# Altium schematic symbol library Trinamics Drivers.SchLib: 5 symbols
Pins are listed as number, name and electrical type; pins without a type are passive.

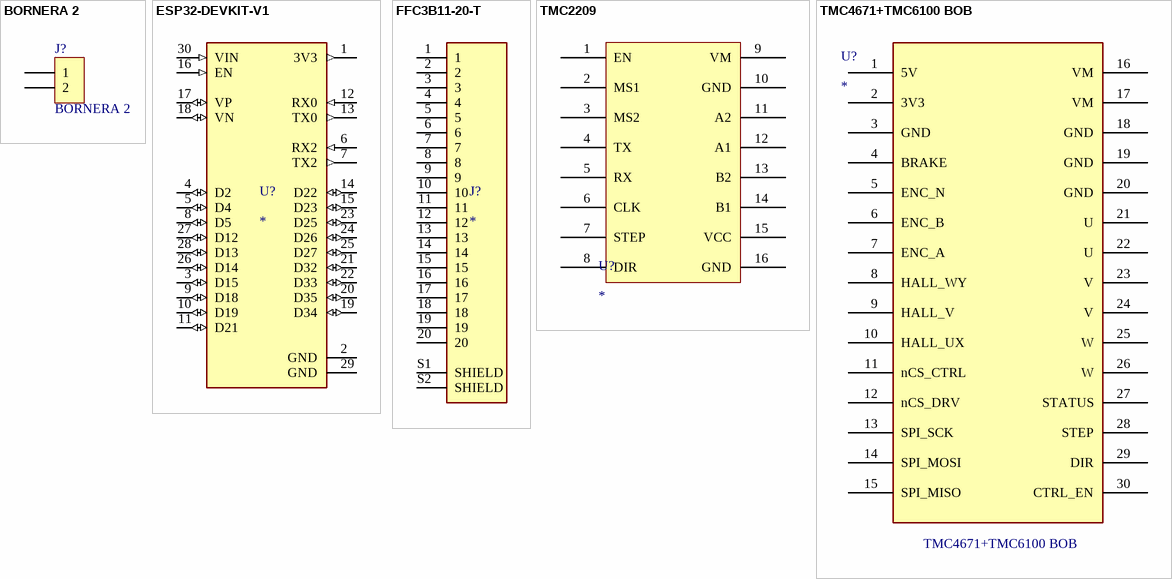
[diagram p0: symbols BORNERA 2 to TMC4671+TMC6100 BOB]

## BORNERA 2
designator J?
footprint BORNERA2 (Bornera con Tornillos 5mm separación)
pins: 1, 2

## ESP32-DEVKIT-V1
designator U?
Dual core, Wi-Fi: 2.4 GHz up to 150 Mbits/s,BLE (Bluetooth Low Energy) and legacy Bluetooth, 32 bits, Up to 240 MHz; MF: Do it; MP: ESP32-DEVKIT-V1; SnapEDA_Link: https://www.snapeda.com/parts/ESP32-DEVKIT-V1/Do+it/view-part/?ref=snap; Package: None; Value: *; Check_prices: https://www.snapeda.com/parts/ESP32-DEVKIT-V1/Do+it/view-part/?ref=eda
footprint MODULE_ESP32_DEVKIT_V1
pins: 1 3V3 (out), 2 GND (power), 3 D15 (io), 4 D2 (io), 5 D4 (io), 6 RX2 (in), 7 TX2 (out), 8 D5 (io), 9 D18 (io), 10 D19 (io), 11 D21 (io), 12 RX0 (in), 13 TX0 (out), 14 D22 (io), 15 D23 (io), 16 EN (in), 17 VP (io), 18 VN (io), 19 D34 (io), 20 D35 (io), 21 D32 (io), 22 D33 (io), 23 D25 (io), 24 D26 (io), 25 D27 (io), 26 D14 (io), 27 D12 (io), 28 D13 (io), 29 GND (power), 30 VIN (in)

## FFC3B11-20-T
designator J?
20 Position FFC, FPC Connector Contacts, Top 0.039 (1.00mm) Surface Mount, Right Angle; MF: Global Connector Technology; MP: FFC3B11-20-T; SnapEDA_Link: https://www.snapeda.com/parts/FFC3B11-20-T/Global+Connector+Technology/view-part/?ref=snap; Package: None; Value: *; Check_prices: https://www.snapeda.com/parts/FFC3B11-20-T/Global+Connector+Technology/view-part/?ref=eda
footprint GCT_FFC3B11-20-T
pins: 1, 2, 3, 4, 5, 6, 7, 8, 9, 10, 11, 12, 13, 14, 15, 16, 17, 18, 19, 20, S1 SHIELD, S2 SHIELD

## TMC2209
designator U?
footprint TMC2209
pins: 1 EN, 2 MS1, 3 MS2, 4 TX, 5 RX, 6 CLK, 7 STEP, 8 DIR, 9 VM, 10 GND, 11 A2, 12 A1, 13 B2, 14 B1, 15 VCC, 16 GND

## TMC4671+TMC6100 BOB
designator U?
footprint TMC4671+TMC6100 BOB
footprint Model Name (Model Description)
footprint Model Name (Model Description)
pins: 1 5V, 2 3V3, 3 GND, 4 BRAKE, 5 ENC_N, 6 ENC_B, 7 ENC_A, 8 HALL_WY, 9 HALL_V, 10 HALL_UX, 11 nCS_CTRL, 12 nCS_DRV, 13 SPI_SCK, 14 SPI_MOSI, 15 SPI_MISO, 16 VM, 17 VM, 18 GND, 19 GND, 20 GND, 21 U, 22 U, 23 V, 24 V, 25 W, 26 W, 27 STATUS, 28 STEP, 29 DIR, 30 CTRL_EN